# Altium integrated library Mechanical - Screws Nuts and Washers.IntLib: 7 symbols
Pins are listed as number, name and electrical type; pins without a type are passive.

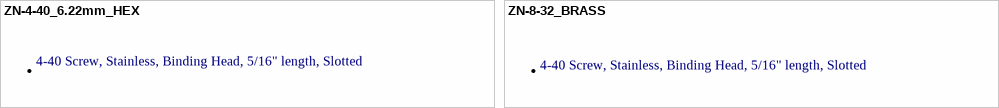
[diagram p0: symbols ZN-4-40_6.22mm_HEX to ZN-8-32_BRASS]

## ZN-4-40_6.22mm_HEX
designator ZN?  (value not drawn)  (mechanical)
4-40 Screw, Stainless, Binding Head, 5/16" length, Slotted; Plating: Zinc Plating; Width: 0.245" (6.22mm); Thread: 4-40; Thickness: 0.094" (2.39mm); Material: Stainless Steel; Type: Hex Nut
text: .

## ZN-8-32_BRASS
designator ZN?  (value not drawn)  (mechanical)
4-40 Screw, Stainless, Binding Head, 5/16" length, Slotted; Thread: 8-32; Plating: N/A; Thickness: 1/8"; Width: 11/32" (8.73mm); Material: Brass; Type: Hex Nut
text: .


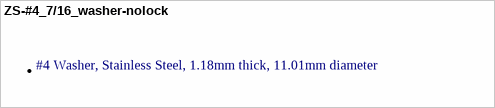
[diagram p1: symbol ZS-#4_7/16_washer-nolock]

## ZS-#4_7/16_washer-nolock
designator ZW?  (value not drawn)  (mechanical)
#4 Washer, Stainless Steel, 1.18mm thick, 11.01mm diameter; Features: N/A; Plating: N/A; Length: 5/16"; Thickness: 3/64" (1.18mm); Diameter (Outside): 7/16" (11.01mm); Hole Size: #4; Material: Stainless Steel; Type: Washer
text: .


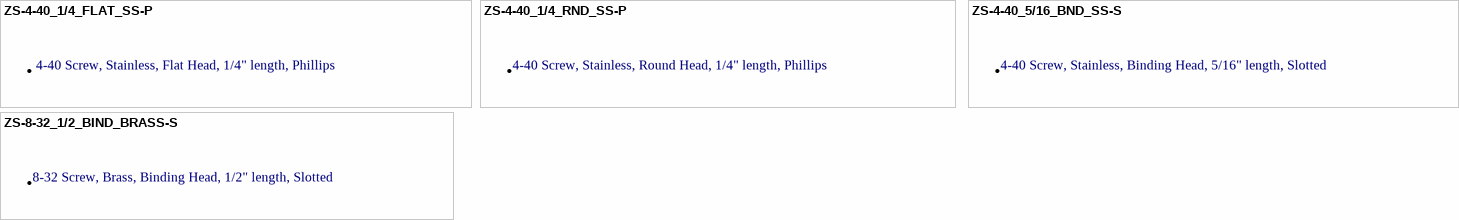
[diagram p2: symbols ZS-4-40_1/4_FLAT_SS-P to ZS-8-32_1/2_BIND_BRASS-S]

## ZS-4-40_1/4_FLAT_SS-P
designator ZS?  (value not drawn)  (mechanical)
4-40 Screw, Stainless, Flat Head, 1/4" length, Phillips; Features: N/A; Plating: N/A; Screw Head Type: Flat Head; Drive Type: Phillips; Thread: 4-40; Length: 1/4"; Material: Stainless Steel
text: .

## ZS-4-40_1/4_RND_SS-P
designator ZS?  (value not drawn)  (mechanical)
4-40 Screw, Stainless, Round Head, 1/4" length, Phillips; Features: N/A; Plating: N/A; Screw Head Type: Round Head; Drive Type: Phillips; Thread: 4-40; Length: 1/4"; Material: Stainless Steel
text: .

## ZS-4-40_5/16_BND_SS-S
designator ZS?  (value not drawn)  (mechanical)
4-40 Screw, Stainless, Binding Head, 5/16" length, Slotted; Features: N/A; Plating: N/A; Screw Head Type: Binding Head; Drive Type: Slotted; Thread: 4-40; Length: 5/16"; Material: Stainless Steel
text: .

## ZS-8-32_1/2_BIND_BRASS-S
designator ZS?  (value not drawn)  (mechanical)
8-32 Screw, Brass, Binding Head, 1/2" length, Slotted; Features: N/A; Plating: N/A; Screw Head Type: Binding Head; Drive Type: Slotted; Thread: 8-32; Length: 1/2"; Material: Brass
text: .